# EAGLE library part ML10 (library di_connectors)
10Pin Connector
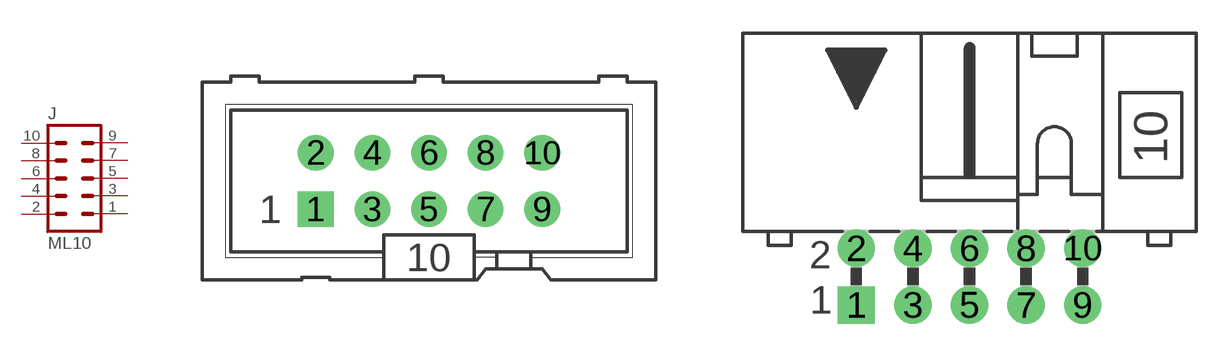
[diagram p1: symbol with the pads of ML10; footprints ML10, ML10L]

Designator prefix J

## ML10-VER-2.5MM  [ML10]
1  1  pas
2  2  pas
3  3  pas
4  4  pas
5  5  pas
6  6  pas
7  7  pas
8  8  pas
9  9  pas
10  10  pas

## ML10-HOR-2.5MM  [ML10L]
Pads as for ML10

## ML10-3M  [3M_10]
Pads as for ML10

## ML10-3ML  [3M_10L]
Pads as for ML10

## ML10-2MM  [2X05M]
Pads as for ML10

## ML10-FLAT_2.5MM  [FLAT_10PIN_2.5MM]
P$1  1  pas
P$2  2  pas
P$3  3  pas
P$4  4  pas
P$5  5  pas
P$6  6  pas
P$7  7  pas
P$8  8  pas
P$9  9  pas
P$10  10  pas

## ML10-FLAT_2MM  [FLAT_10PIN_2.0MM]
Pads as for FLAT_10PIN_2.5MM

## Footprint ML10 (pad centres in mm)
HARTING
drill 0.914 pad 1.6 square: 1 -5.08,-1.27
drill 0.914 pad 1.6: 2 -5.08,1.27; 3 -2.54,-1.27; 4 -2.54,1.27; 5 0,-1.27; 6 0,1.27; 7 2.54,-1.27; 8 2.54,1.27; 9 5.08,-1.27; 10 5.08,1.27

## Footprint ML10L (pad centres in mm)
HARTING
drill 0.914 pad 1.676 square: 1 -5.08,-1.27
drill 0.914 pad 1.676: 2 -5.08,1.27; 3 -2.54,-1.27; 4 -2.54,1.27; 5 0,-1.27; 6 0,1.27; 7 2.54,-1.27; 8 2.54,1.27; 9 5.08,-1.27; 10 5.08,1.27

## Footprint 3M_10 (pad centres in mm)
3M
drill 0.813 square: 1 -5.08,-1.27; 2 -5.08,1.27; 3 -2.54,-1.27; 4 -2.54,1.27; 5 0,-1.27; 6 0,1.27; 7 2.54,-1.27; 8 2.54,1.27; 9 5.08,-1.27; 10 5.08,1.27

## Footprint 3M_10L (pad centres in mm)
3M
drill 0.813 square: 1 -5.08,-5.08; 2 -5.08,-2.54; 3 -2.54,-5.08; 4 -2.54,-2.54; 5 0,-5.08; 6 0,-2.54; 7 2.54,-5.08; 8 2.54,-2.54; 9 5.08,-5.08; 10 5.08,-2.54
hole 2.54 at -10.998,-3.277
hole 2.54 at 10.998,-3.277

## Footprint 2X05M (pad centres in mm)
PIN HEADER - 2MM"
drill 0.914 square: 1 -4,-1
drill 0.914: 2 -4,1; 3 -2,-1; 4 -2,1; 5 0,-1; 6 0,1; 7 2,-1; 8 2,1; 9 4,-1; 10 4,1

## Footprint FLAT_10PIN_2.5MM (pad centres in mm)
smd 0.9 x 3: P$1 -5.85,0; P$2 -4.55,0; P$3 -3.25,0; P$4 -1.95,0; P$5 -0.65,0; P$6 0.65,0; P$7 1.95,0; P$8 3.25,0; P$9 4.55,0; P$10 5.85,0

## Footprint FLAT_10PIN_2.0MM (pad centres in mm)
smd 0.5 x 3.2: P$1 -4.5,0; P$2 -3.5,0; P$3 -2.5,0; P$4 -1.5,0; P$5 -0.5,0; P$6 0.5,0; P$7 1.5,0; P$8 2.5,0; P$9 3.5,0; P$10 4.5,0